# Altium footprint library SW 2.PcbLib: 1 footprints
Each footprint in its own frame and in the unit in brackets; x right, y up, seen from the top. Pads: shape width x height; smd on the part's side, far side on the other; paste and mask are expansions set on the pad; w line width, h text height; cw(c..) or ccw(c..) is an arc to the next point about the centre after c.
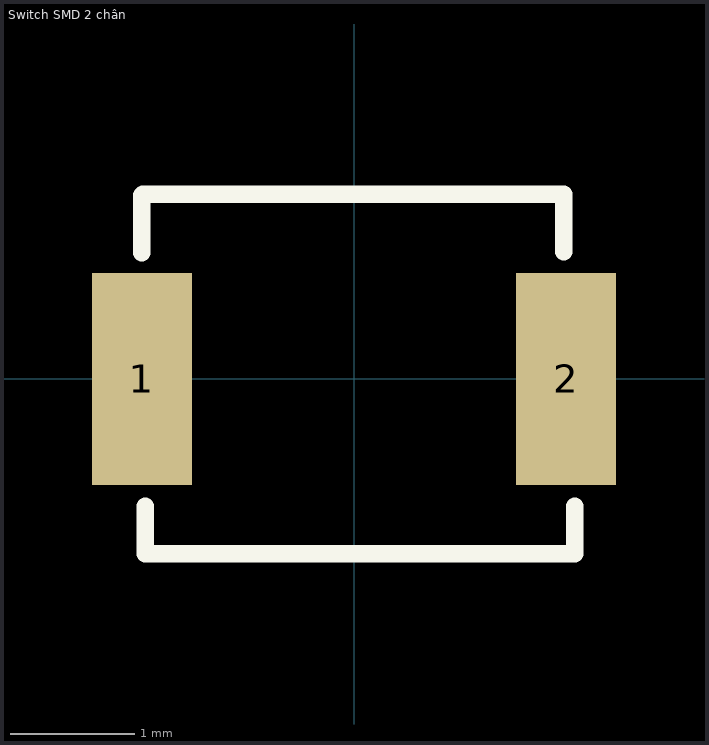
[diagram p0: the footprint, top view; thin cyan lines are the x and y axes]

## Switch SMD 2 chân [mm]
pads (2):
  rect 0.8x1.7 smd: 1(-1.7,0) 2(1.7,0)
Top Overlay:
  lines w0.14: -1.702,1.01 -1.702,1.471 -1.694,1.478 1.682,1.478 1.682,1.02 ; -1.671,-1.02 -1.671,-1.401 1.769,-1.401 1.769,-1.02
3D body "SWITCH 2 CHÂN B3U.STEP": height 1.6, standoff 0, extent -2.03,-1.2 1.97,1.3